# Altium footprint library 我的PCB.PcbLib: 347 footprints (part 16 of 22)
Each footprint in its own frame and in the unit in brackets; x right, y up, seen from the top. Pads: shape width x height; smd on the part's side, far side on the other; paste and mask are expansions set on the pad; w line width, h text height; cw(c..) or ccw(c..) is an arc to the next point about the centre after c.
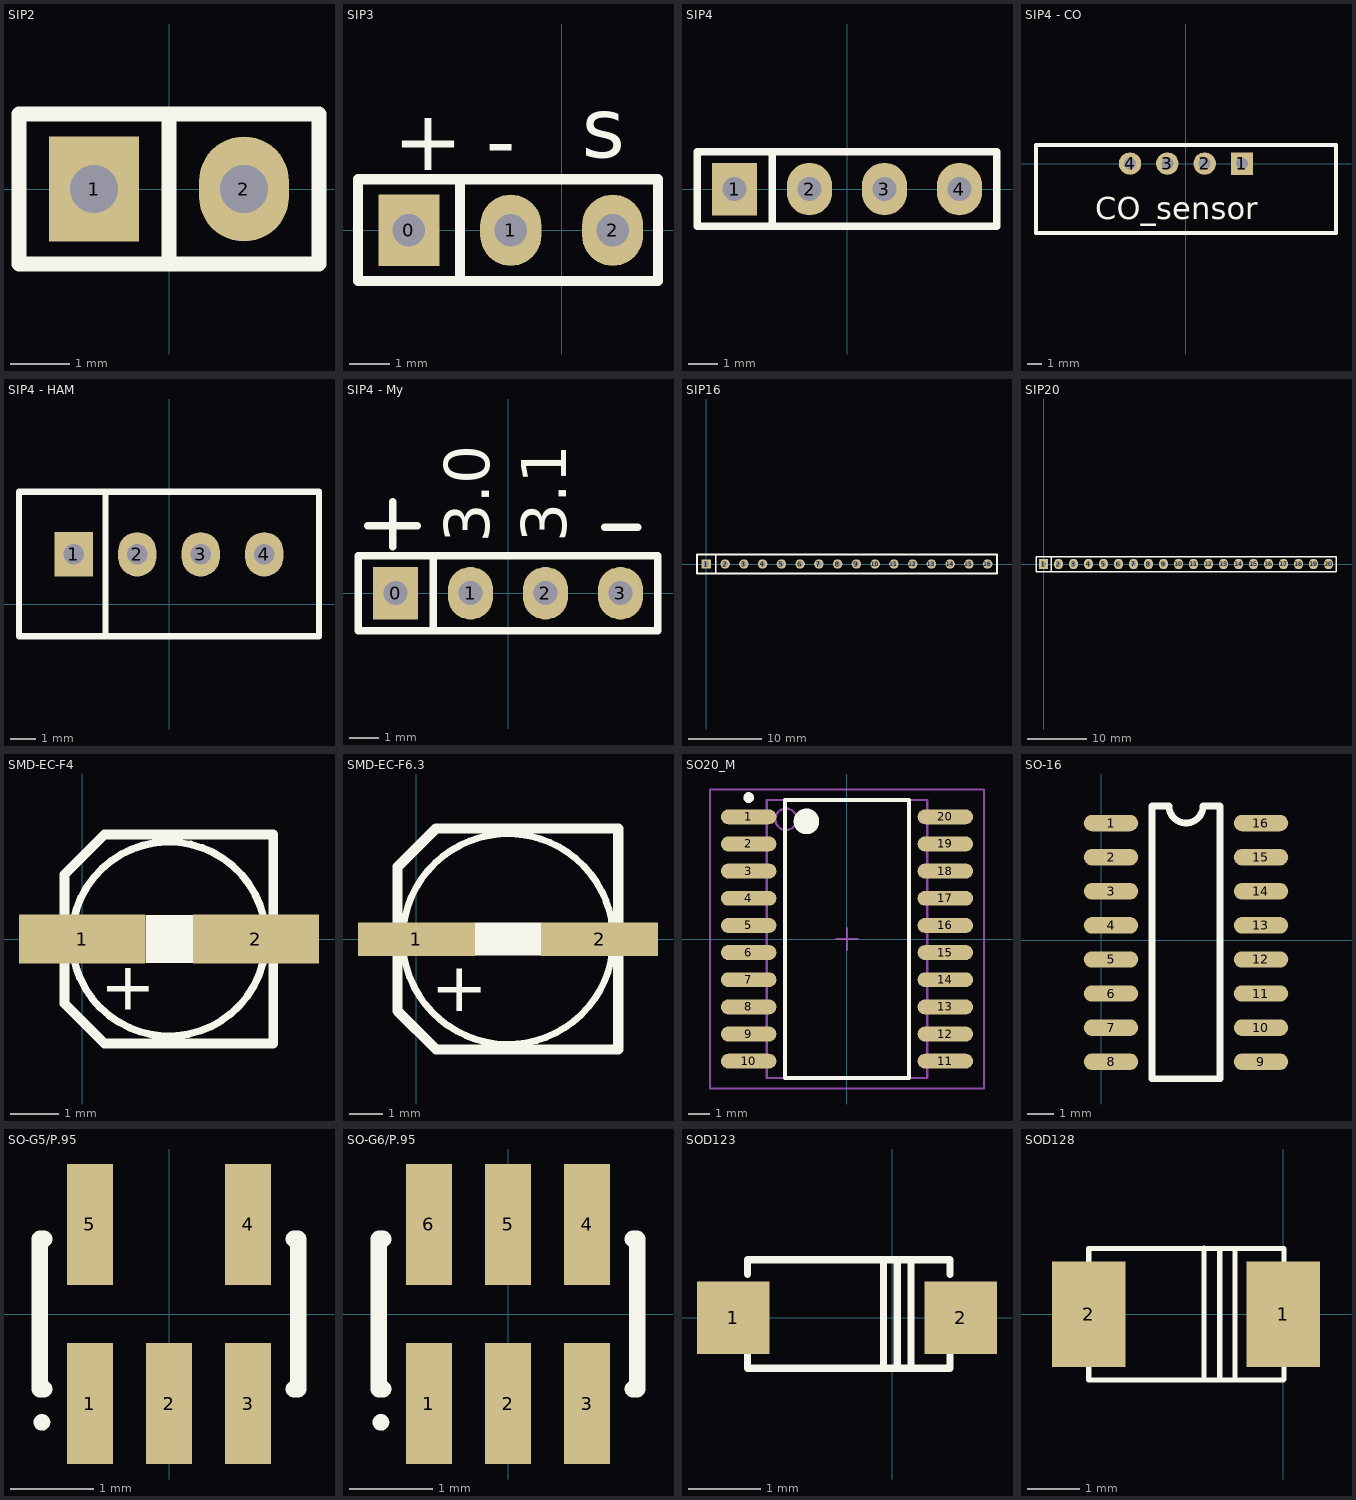
[diagram p15: the footprints below, top view; thin cyan lines are the x and y axes]

## SIP2 [mil]
pads (2):
  rect 60x70 hole 32: 1(-50,0)
  oval 60x70 hole 32: 2(50,0)
Top Overlay:
  lines w10: 0,-50 0,50 ; -100,-50 100,-50 100,50 -100,50 -100,-50

## SIP3 [mil]
pads (3):
  rect 60x70 hole 32: 0(-150,0)
  oval 60x70 hole 32: 1(-50,0) 2(50,0)
Top Overlay:
  lines w10: -100,-50 -100,50 ; -200,-50 -200,50 94.49,50 94.49,-50 -200,-50
  text "s" at 19.68,70.87 h60
  text "-" at -74.8,59.06 h60
  text "+" at -165.35,59.06 h60

## SIP4 [mil]
pads (4):
  rect 60x70 hole 32: 1(-150,0)
  oval 60x70 hole 32: 2(-50,0) 3(50,0) 4(150,0)
Top Overlay:
  lines w10: -100,-50 -100,50 ; -200,-50 -200,50 200,50 200,-50 -200,-50
3D body: height 336.22, standoff -118.11, extent -200.79,-51.18 199.21,48.82

## SIP4 - CO [mil]
pads (4):
  rect 60x60 hole 32: 1(150,0)
  round 60 hole 32: 2(50,0) 3(-50,0) 4(-150,0)
Top Overlay:
  lines w10: -401.97,-186.22 -401.97,50 401.97,50 401.97,-186.22 -401.97,-186.22
  text "CO_sensor" at -243.7,-149.61 h60

## SIP4 - HAM [mil]
pads (4):
  rect 60x70 hole 32: 1(-150,78.74)
  oval 60x70 hole 32: 2(-50,78.74) 3(50,78.74) 4(150,78.74)
Top Overlay:
  lines w10: -100,-50 -100,177.17 ; -236.22,-50 -236.22,177.17 236.22,177.17 236.22,-50 -236.22,-50
3D body: height 336.22, standoff -118.11, extent -200,18.11 200,118.11

## SIP4 - My [mil]
pads (4):
  rect 60x70 hole 32: 0(-150,0)
  oval 60x70 hole 32: 1(-50,0) 2(50,0) 3(150,0)
Top Overlay:
  lines w10: -187,90 -121,90 ; -154,62 -154,122 ; -100,-50 -100,50 ; 129,88 173,88 ; -200,-50 200,-50 200,50 -200,50 -200,-50
  text "3.0" at -25,67 h60
  text "3.1" at 78,68 h60
3D body: height 336.22, standoff -118.11, extent -200.79,-51.18 199.21,48.82

## SIP16 [mil]
pads (16):
  rect 50x50 hole 30: 1(0,0)
  round 50 hole 30: 2(100,0) 3(200,0) 4(300,0) 5(400,0) 6(500,0) 7(600,0) 8(700,0) 9(800,0) 10(900,0) 11(1000,0) 12(1100,0) 13(1200,0) 14(1300,0) 15(1400,0) 16(1500,0)
Top Overlay:
  lines w10: 50,-50 50,50 ; -50,-50 1550,-50 1550,50 -50,50 -50,-50
3D body: height 336.22, standoff -118.11, extent 750,-49.33 1550,50.67
3D body: height 336.22, standoff -118.11, extent -50,-50 750,50

## SIP20 [mil]
pads (20):
  rect 60x70 hole 32: 1(0,0)
  oval 60x70 hole 32: 2(100,0) 3(200,0) 4(300,0) 5(400,0) 6(500,0) 7(600,0) 8(700,0) 9(800,0) 10(900,0) 11(1000,0) 12(1100,0) 13(1200,0) 14(1300,0) 15(1400,0) 16(1500,0) 17(1600,0) 18(1700,0) 19(1800,0) 20(1900,0)
Top Overlay:
  lines w10: 50,-50 50,50 ; -50,-50 -50,50 1950,50 1950,-50 -50,-50

## SMD-EC-F4 [mm]
pads (2):
  rect 2.6x1 smd: 1(0,0) 2(3.579,0)
Top Overlay:
  rectangle: 1.302,-0.499 2.279,0.5
  lines w0.152: 3.561,0.924 ccw(c1.787,0) 3.562,0.921
  lines w0.203: 3.936,2.151 0.461,2.151 -0.364,1.325 -0.364,-1.324 0.461,-2.15 3.937,-2.15 3.937,2.15
  text "+" at 0.37,-1.46 h1

## SMD-EC-F6.3 [mm]
pads (2):
  rect 3.5x1 smd: 1(0,0) 2(5.475,0)
Top Overlay:
  rectangle: 1.746,-0.496 3.73,0.5
  lines w0.203: 5.667,1.156 ccw(c2.736,0.002) 5.667,1.154
  lines w0.305: 0.587,-3.303 -0.564,-2.152 -0.564,2.163 0.587,3.314 ; 0.589,-3.305 6.036,-3.305 6.036,3.309 0.592,3.309
  text "+" at 0.43,-2.164 h1.5

## SO20_M [mm] "SOIC, 20-Leads, Body 12.8x7.5mm, Pitch 1.27mm, IPC Low Density"
height 2.65
pads (20):
  oval 2.6x0.7 smd: 1(-4.6,5.715) 2(-4.6,4.445) 3(-4.6,3.175) 4(-4.6,1.905) 5(-4.6,0.635) 6(-4.6,-0.635) 7(-4.6,-1.905) 8(-4.6,-3.175) 9(-4.6,-4.445) 10(-4.6,-5.715) 11(4.6,-5.715) 12(4.6,-4.445) 13(4.6,-3.175) 14(4.6,-1.905) 15(4.6,-0.635) 16(4.6,0.635) 17(4.6,1.905) 18(4.6,3.175) 19(4.6,4.445) 20(4.6,5.715)
Top Overlay:
  circle w0.6: c-1.9,5.5 r0.3
  circle w0.25: c-4.6,6.615 r0.125
  lines w0.2: -2.9,-6.5 2.9,-6.5 2.9,6.5 -2.9,6.5 -2.9,-6.5
Mechanical 13:
  circle w0.1: c-2.85,5.6 r0.5
  lines w0.1: -3.75,-6.5 3.75,-6.5 3.75,6.5 -3.75,6.5 -3.75,-6.5
Mechanical 15:
  lines w0.1: -0.5,0 0.5,0 ; 0,-0.5 0,0.5 ; -6.4,-7 6.4,-7 6.4,7 -6.4,7 -6.4,-7
3D body: height 2.65, standoff 0, extent -3.75,-6.5 3.75,6.5

## SO-16 [mil]
pads (16):
  oval 80x24 smd: 1(14,172) 2(14,122) 3(14,72) 4(14,22) 5(14,-28) 6(14,-78) 7(14,-128) 8(14,-178) 9(234,-178) 10(234,-128) 11(234,-78) 12(234,-28) 13(234,22) 14(234,72) 15(234,122) 16(234,172)
Top Overlay:
  lines w10: 74,-203 174,-203 174,197 149,197 cw(c124,197) 99,197 74,197 74,-203

## SO-G5/P.95 [mm] "SOT-23/SC-74A; 5 Leads; Body 3.1 x 3 mm, inc. leads (LxW max)"
height 1.45
pads (5):
  rect 0.55x1.45 smd: 1(-0.95,-1.075) 2(0,-1.075) 3(0.95,-1.075) 4(0.95,1.075) 5(-0.95,1.075)
Top Overlay:
  circle w0.1: c-1.525,-1.3 r0.05
  lines w0.2: -1.5,-0.9 -1.55,-0.9 -1.55,0.9 -1.5,0.9 ; 1.5,-0.9 1.55,-0.9 1.55,0.9 1.5,0.9

## SO-G6/P.95 [mm] "SOT-457/SC-74; 6 Leads; Body 3.1 x 3 mm, inc. leads (LxW max)"
height 1.45
pads (6):
  rect 0.55x1.45 smd: 1(-0.95,-1.075) 2(0,-1.075) 3(0.95,-1.075) 4(0.95,1.075) 5(0,1.075) 6(-0.95,1.075)
Top Overlay:
  circle w0.1: c-1.525,-1.3 r0.05
  lines w0.2: -1.5,-0.9 -1.55,-0.9 -1.55,0.9 -1.5,0.9 ; 1.5,-0.9 1.55,-0.9 1.55,0.9 1.5,0.9

## SOD123 [mm] "Chip Capacitor; Body 2.0 x 1.2 mm (LxW typ)"
height 1.1
pads (2):
  rect 1x1 smd: 1(-2.2,0) 2(0.95,0)
Top Overlay:
  lines w0.1: -2,-0.5 -2,-0.7 0.8,-0.7 0.8,-0.5 ; -2,0.6 -2,0.8 0.8,0.8 0.8,0.6 ; -0.12,-0.7 -0.12,0.8 ; 0.07,-0.7 0.07,0.8 ; 0.26,-0.7 0.26,0.8

## SOD128 [mm] "Chip Capacitor; Body 2.0 x 1.2 mm (LxW typ)"
height 1.1
pads (2):
  rect 1.4x2 smd: 1(0,0) 2(-3.7,0)
Top Overlay:
  lines w0.1: -3.7,-0.67 -3.7,-1.25 0,-1.25 ; -3.7,0.68 -3.7,1.25 0.01,1.25 0.01,0.67 ; -1.51,-1.24 -1.51,1.26 ; -1.21,-1.25 -1.21,1.25 ; -0.92,-1.25 -0.92,1.25 ; 0.01,-1.24 0.01,-0.66